# EAGLE library part NTSX2102 (library FaBo-LevelTranslator)
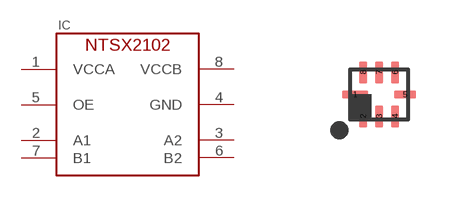
[diagram p3: symbol with the pads of SOT1309-1; footprint SOT1309-1]

Designator prefix IC

## NTSX2102GU8H  [SOT1309-1]
1  VCCA
2  A1
3  A2
4  GND
5  OE
6  B2
7  B1
8  VCCB

## Footprint SOT1309-1 (pad centres in mm)
smd 0.65 x 0.2: 1 -0.6,0
smd 0.2 x 0.55: 2 -0.4,-0.55; 3 0,-0.55; 4 0.4,-0.55; 6 0.4,0.55; 7 0,0.55; 8 -0.4,0.55
smd 0.55 x 0.2: 5 0.65,0